# Altium schematic symbol library IGBTs.SchLib: 4 symbols
Pins are listed as number, name and electrical type; pins without a type are passive.

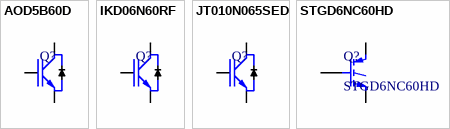
[diagram p0: symbols AOD5B60D to STGD6NC60HD]

## AOD5B60D
designator Q?  (value not drawn)
IGBT N-CH 600V, 5A
footprint TO-252
pins: 1 G, 2 C, 3 E

## IKD06N60RF
designator Q?  (value not drawn)
IGBT N-CH 600V, 12A
footprint TO-252
pins: 1 G, 2 C, 3 E

## JT010N065SED
designator Q?  (value not drawn)
IGBT N-CH 650V, 10A
footprint TO-263
pins: 1 G, 2 C, 3 E

## STGD6NC60HD
designator Q?
IGBT N-CH 600V, 6A
footprint TO-252
pins: 1 G, 2 C, 3 E